# Altium footprint library SOT95P237X112-3N.PcbLib: 1 footprints
Each footprint in its own frame and in the unit in brackets; x right, y up, seen from the top. Pads: shape width x height; smd on the part's side, far side on the other; paste and mask are expansions set on the pad; w line width, h text height; cw(c..) or ccw(c..) is an arc to the next point about the centre after c.
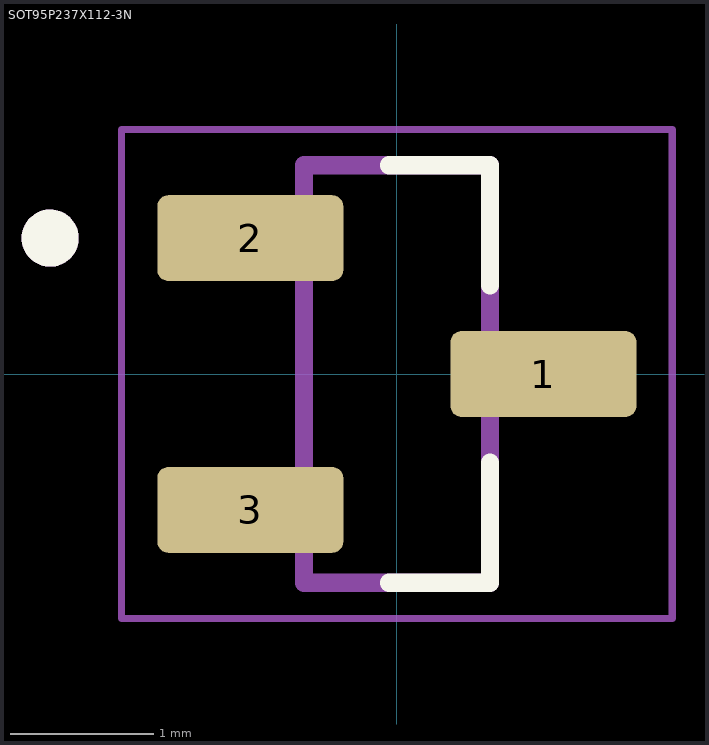
[diagram p0: the footprint, top view; thin cyan lines are the x and y axes]

## SOT95P237X112-3N [mm]
pads (3):
  rrect25% 1.3x0.6 smd: 1(1.025,0) 2(-1.025,0.95) 3(-1.025,-0.95)
Top Overlay:
  circle w0.2: c-2.425,0.95 r0.1
  lines w0.127: -0.055,-1.46 0.65,-1.46 0.65,-0.62 ; -0.055,1.46 0.65,1.46 0.65,0.62
Mechanical 13:
  circle w0.2: c-2.425,0.95 r0.1
  lines w0.127: -0.65,-1.46 -0.65,1.46 0.65,1.46 0.65,-1.46 -0.65,-1.46
Mechanical 15:
  lines w0.05: -1.925,-1.71 1.925,-1.71 1.925,1.71 -1.925,1.71 -1.925,-1.71
3D body "step_temp.STEP": height 1.35, standoff 0, extent -1.2,-1.45 1.2,1.45